# EAGLE library part DRV8876NPWPR (library NikodemBartnik)
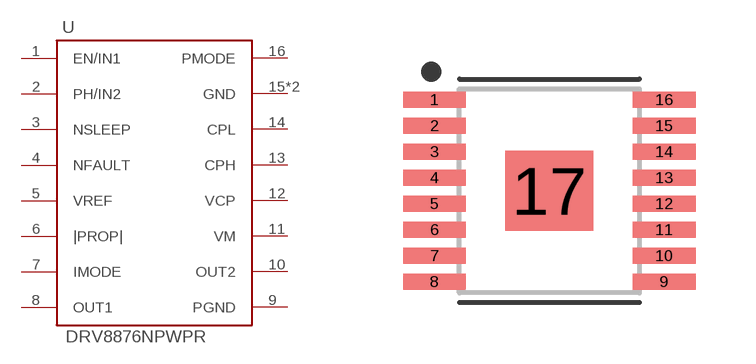
[diagram p3: symbol with the pads of SOP65P640X120-17T220X200N; footprint SOP65P640X120-17T220X200N]

Designator prefix -

## DRV8876NPWPR16-PINHTSSOP-TP  [SOP65P640X120-17T220X200N]
1  EN/IN1
2  PH/IN2
3  NSLEEP
4  NFAULT
5  VREF
6  |PROP|
7  IMODE
8  OUT1
9  PGND
10  OUT2
11  VM
12  VCP
13  CPH
14  CPL
15  GND
16  PMODE
17  GND

## Footprint SOP65P640X120-17T220X200N (pad centres in mm)
16-SOP, 0.65 mm pitch, 6.40 mm span, 5.00 X 4.40 X 1.20 mm body, 2.00 X 2.20 mm thermal pad 16-pin SOP package with 0.65 mm pitch, 6.40 mm span with body size 5.00 X 4.40 X 1.20 mm and thermal pad size 2.00 X 2.20 mm
smd 1.572 x 0.407: 1 -2.872,2.275; 2 -2.872,1.625; 3 -2.872,0.975; 4 -2.872,0.325; 5 -2.872,-0.325; 6 -2.872,-0.975; 7 -2.872,-1.625; 8 -2.872,-2.275; 9 2.872,-2.275; 10 2.872,-1.625; 11 2.872,-0.975; 12 2.872,-0.325; 13 2.872,0.325; 14 2.872,0.975; 15 2.872,1.625; 16 2.872,2.275
smd 2.2 x 2: 17 0,0